# EAGLE library part P-12486_AQM1602Y (library 01)
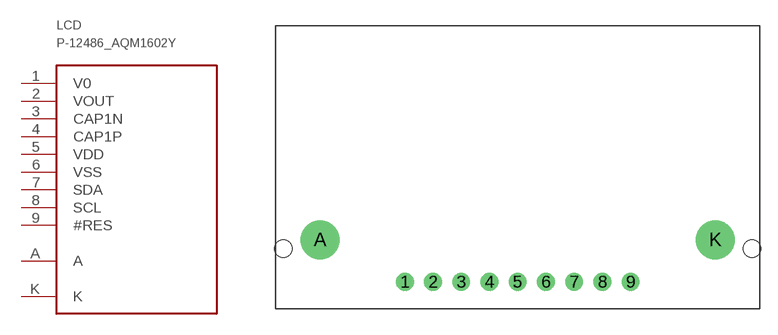
[diagram p5: symbol with the pads of AQM1602Y; footprint AQM1602Y]

Designator prefix LCD

## P-12486_AQM1602Y  [AQM1602Y]
1  V0
2  VOUT
3  CAP1N
4  CAP1P
5  VDD
6  VSS
7  SDA
8  SCL
9  #RES
A  A
K  K

## Footprint AQM1602Y (pad centres in mm)
drill 0.8 pad 1.6: 1 -10.16,0; 2 -7.62,0; 3 -5.08,0; 4 -2.54,0; 5 0,0; 6 2.54,0; 7 5.08,0; 8 7.62,0; 9 10.16,0
drill 2.2 pad 3.5: A -17.8,3.8; K 17.8,3.8
hole 1.6 at -21.1,3
hole 1.6 at 21.1,3